# Altium integrated library Infineon_Microcontroller.IntLib: 721 symbols (part 65 of 66)
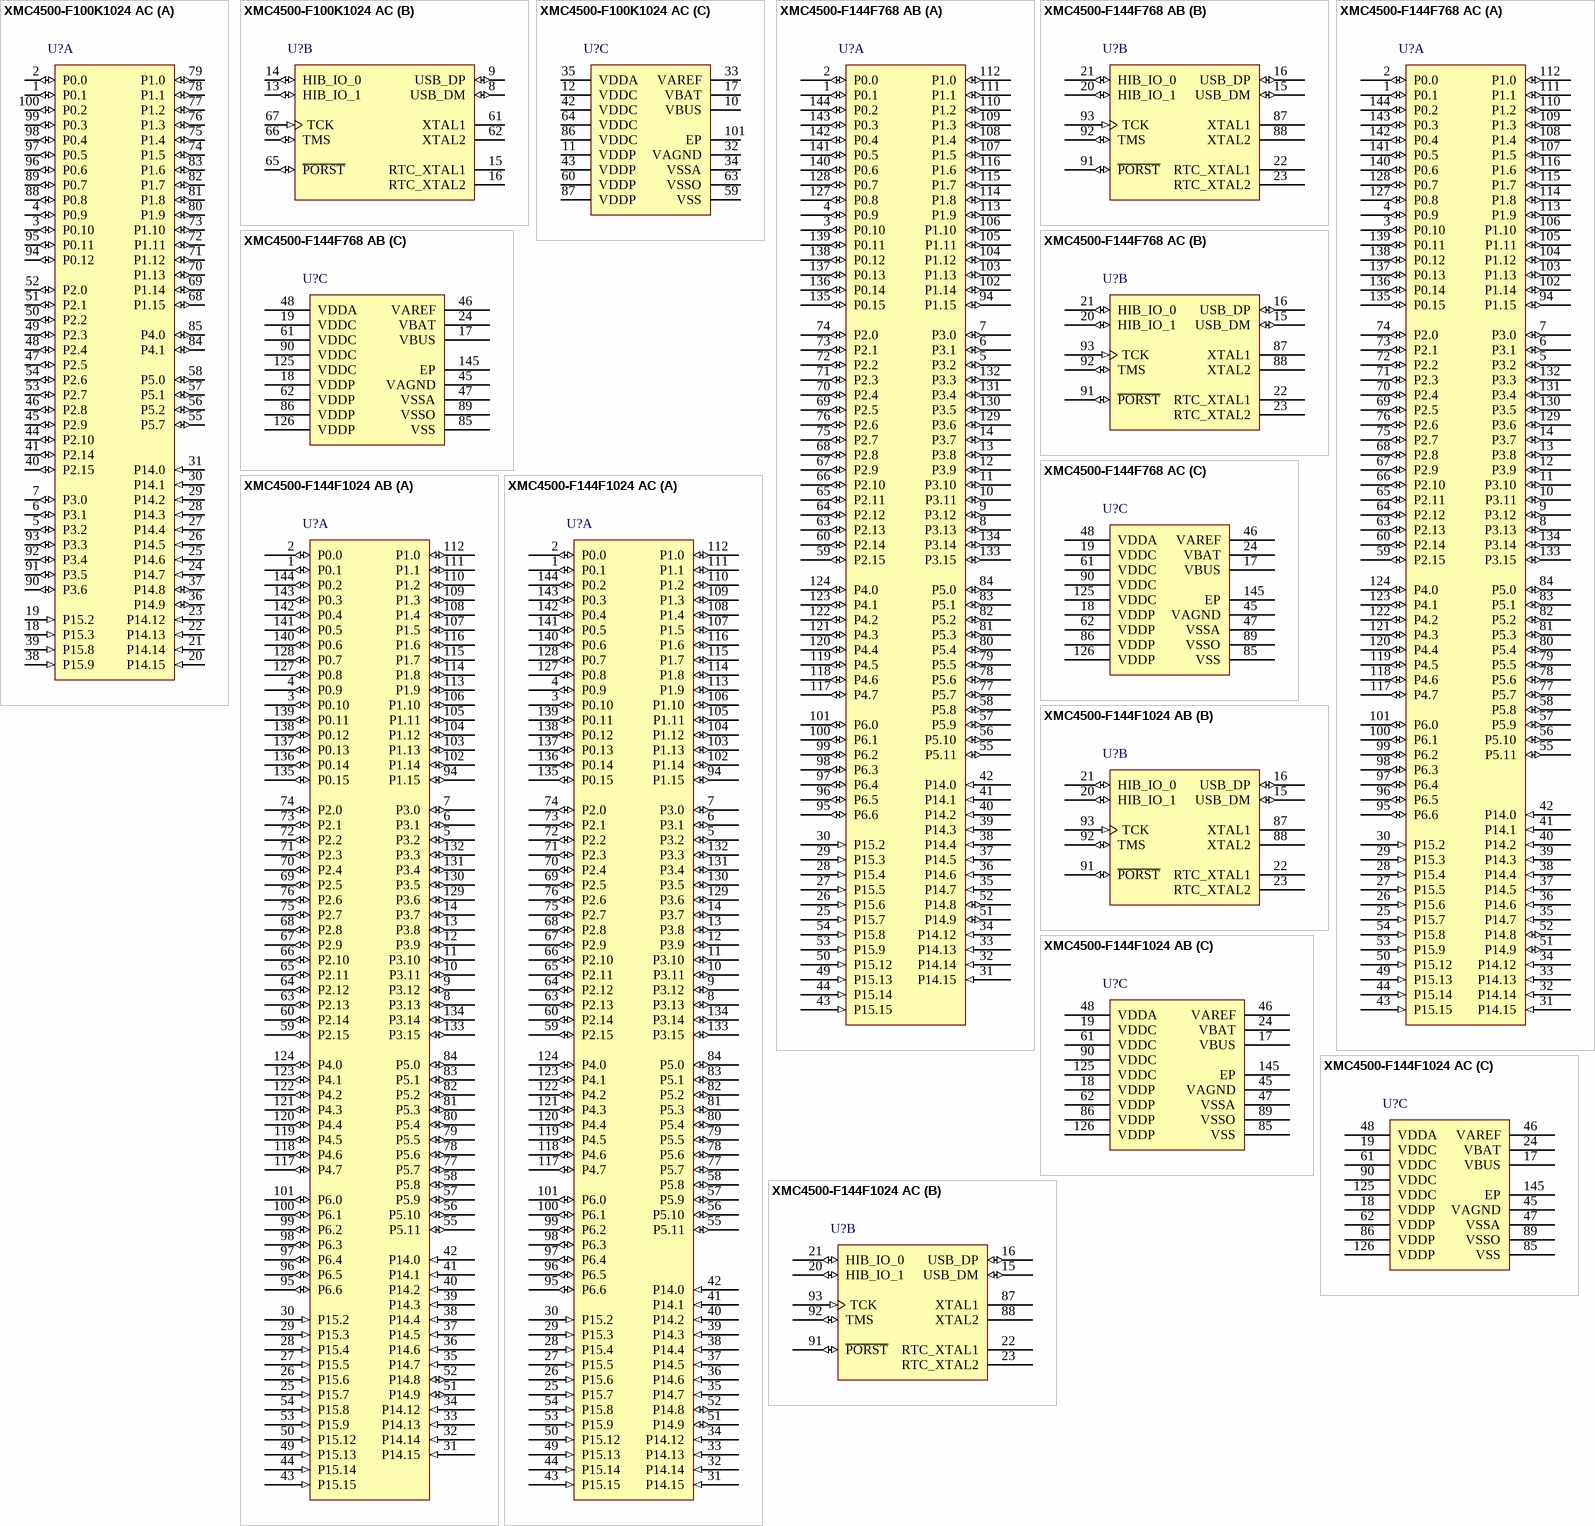
[diagram p182: symbols XMC4500-F100K1024 AC to XMC4500-F144F1024 AC]

## XMC4500-F144F768 AB
designator U?
120 MHz XMC4500 MCU with 768 KByte Program Memory, 160 KByte SRAM, 3.3 V, -40 to 85 degC, PG-LQFP-144, Green; Manufacturer: Infineon; PartNumber: XMC4500-F144F768 AB; A / D input lines (incl. FADC): 26; Digital I/O Lines: 91; Green: TRUE; Type of Memory: Flash; Type of Serial I/O Interfaces: 6xSPI, Dual SPI, Quad SPI, UART, LIN, IIC, IIS; DatasheetVersion: Rev. 1.0; PackageVersion: Rev. 05, 01/2013; PackageReference: PG-LQFP-144-18; PackageDescription: 144-Pin Plastic (Green) Low Profile Quad Flat Package, 20 x 20 mm Body, 0.5 mm Pitch; Group: XMC4500; Halogen-free: TRUE; Program Memory: 768 KByte; RoHS: TRUE; SRAM (incl. Cache): 160 KByte; Mounting Technology: Surface Mount; ComponentLink1Description: Manufacturer URL; ComponentLink1URL: http://www.infineon.com/; ComponentLink2Description: Datasheet; ComponentLink2URL: http://www.infineon.com/dgdl/xmc4500_ds_v1+0_2013_01.pdf?folderId=db3a30433580b3710135a47f3eb76c98&fileId=db3a304335b504400135bdca7ed86742&location=en.Products.Microcontrollers.32-bit_Industrial_Microcontrollers_based_on_ARM__Cortex_-M.32-bit_XMC4000_Industrial_Microcontrollers_ARM__Cortex_-M4.DATASHEET.xmc4500_ds_v1 0_2013_01.pdf; ComponentLink3Description: Package Specification; ComponentLink3URL: http://www.infineon.com/cms/packages/SMD_-_Surface_Mounted_Devices/P-PG-LQFP/P-PG-LQFP-144-04x_13x_14x_15x_16x_18.html?__locale=en
footprint INF-PG-LQFP-144-18-6500X6500TP_N (QFP, 144-Leads, Body 20x20mm, Pitch 0.5mm, Thermal Pad 6.5x6.5mm, IPC Medium Density)
footprint INF-PG-LQFP-144-18-6500X6500TP_L (QFP, 144-Leads, Body 20x20mm, Pitch 0.5mm, Thermal Pad 6.5x6.5mm, IPC High Density)
footprint INF-PG-LQFP-144-18-6500X6500TP_M (QFP, 144-Leads, Body 20x20mm, Pitch 0.5mm, Thermal Pad 6.5x6.5mm, IPC Low Density)
part A pins: 1 P0.1 (io), 2 P0.0 (io), 3 P0.10 (io), 4 P0.9 (io), 5 P3.2 (io), 6 P3.1 (io), 7 P3.0 (io), 8 P3.13 (io), 9 P3.12 (io), 10 P3.11 (io), 11 P3.10 (io), 12 P3.9 (io), 13 P3.8 (io), 14 P3.7 (io), 25 P15.7 (in), 26 P15.6 (in), 27 P15.5 (in), 28 P15.4 (in), 29 P15.3 (in), 30 P15.2 (in), 31 P14.15 (in), 32 P14.14 (in), 33 P14.13 (in), 34 P14.12 (in), 35 P14.7 (in), 36 P14.6 (in), 37 P14.5 (in), 38 P14.4 (in), 39 P14.3 (in), 40 P14.2 (in), 41 P14.1 (in), 42 P14.0 (in), 43 P15.15 (in), 44 P15.14 (in), 49 P15.13 (in), 50 P15.12 (in), 51 P14.9 (io), 52 P14.8 (io), 53 P15.9 (in), 54 P15.8 (in), 55 P5.11 (io), 56 P5.10 (io), 57 P5.9 (io), 58 P5.8 (io), 59 P2.15 (io), 60 P2.14 (io), 63 P2.13 (io), 64 P2.12 (io), 65 P2.11 (io), 66 P2.10 (io), 67 P2.9 (io), 68 P2.8 (io), 69 P2.5 (io), 70 P2.4 (io), 71 P2.3 (io), 72 P2.2 (io), 73 P2.1 (io), 74 P2.0 (io), 75 P2.7 (io), 76 P2.6 (io), 77 P5.7 (io), 78 P5.6 (io), 79 P5.5 (io), 80 P5.4 (io), 81 P5.3 (io), 82 P5.2 (io), 83 P5.1 (io), 84 P5.0 (io), 94 P1.15 (io), 95 P6.6 (io), 96 P6.5 (io), 97 P6.4 (io), 98 P6.3 (io), 99 P6.2 (io), 100 P6.1 (io), 101 P6.0 (io), 102 P1.14 (io), 103 P1.13 (io), 104 P1.12 (io), 105 P1.11 (io), 106 P1.10 (io), 107 P1.5 (io), 108 P1.4 (io), 109 P1.3 (io), 110 P1.2 (io), 111 P1.1 (io), 112 P1.0 (io), 113 P1.9 (io), 114 P1.8 (io), 115 P1.7 (io), 116 P1.6 (io), 117 P4.7 (io), 118 P4.6 (io), 119 P4.5 (io), 120 P4.4 (io), 121 P4.3 (io), 122 P4.2 (io), 123 P4.1 (io), 124 P4.0 (io), 127 P0.8 (io), 128 P0.7 (io), 129 P3.6 (io), 130 P3.5 (io), 131 P3.4 (io), 132 P3.3 (io), 133 P3.15 (io), 134 P3.14 (io), 135 P0.15 (io), 136 P0.14 (io), 137 P0.13 (io), 138 P0.12 (io), 139 P0.11 (io), 140 P0.6 (io), 141 P0.5 (io), 142 P0.4 (io), 143 P0.3 (io), 144 P0.2 (io)
part B pins: 15 USB_DM (io), 16 USB_DP (io), 20 HIB_IO_1 (io), 21 HIB_IO_0 (io), 22 RTC_XTAL1, 23 RTC_XTAL2, 87 XTAL1, 88 XTAL2, 91 ~{PORST} (io) "Weak pull-up permanently active, strong pull-down controlled by EVR.", 92 TMS (io), 93 TCK (in)
part C pins: 17 VBUS (power), 18 VDDP (power), 19 VDDC (power), 24 VBAT (power) "When VDDP is supplied VBAT has to be supplied as well.", 45 VAGND (power), 46 VAREF (power), 47 VSSA (power), 48 VDDA (power), 61 VDDC (power), 62 VDDP (power), 85 VSS (power), 86 VDDP (power), 89 VSSO (power), 90 VDDC (power), 125 VDDC (power), 126 VDDP (power), 145 EP (power) "Exposed Die Pad"

## XMC4500-F144F768 AC
designator U?
120 MHz XMC4500 MCU with 768 KByte Program Memory, 160 KByte SRAM, 3.3 V, -40 to 85 degC, PG-LQFP-144, Tray, Green; Manufacturer: Infineon; PartNumber: XMC4500-F144F768 AC; A / D input lines (incl. FADC): 26; Digital I/O Lines: 91; Green: TRUE; I/O Operation Voltages: 3.3 V; Instruction set architecture: ARM(R) Cortex(TM)-M4 (32-bit); Max Clock Frequency: 120 MHz; Type of Memory: Flash; Type of Serial I/O Interfaces: UART,SPI,I2C,I2S,LIN,CAN,Ethernet 10/100,USB; DatasheetVersion: Rev. 1.3; PackageReference: PG-LQFP-144-18; PackageDescription: 144-Pin Plastic (Green) Low Profile Quad Flat Package, 20 x 20 mm Body, 0.5 mm Pitch; Group: XMC4500; Halogen-free: TRUE; Packing: Tray; Program Memory: 768 KByte; SRAM (incl. Cache): 160 KByte; Mounting Technology: Surface Mount; ComponentLink1Description: Manufacturer URL; ComponentLink1URL: http://www.infineon.com/; ComponentLink2Description: Datasheet; ComponentLink2URL: http://www.infineon.com/dgdl/xmc4500_ds_v1.3_2014_03.pdf?folderId=db3a30433580b3710135a47f3eb76c98&fileId=db3a304335b504400135bdca7ed86742; ComponentLink3Description: Package Specification; ComponentLink3URL: http://www.infineon.com/cms/packages/SMD_-_Surface_Mounted_Devices/P-PG-LQFP/P-PG-LQFP-144-04x_13x_14x_15x_16x_18x_23.html?__locale=en
footprint INF-PG-LQFP-144-18-6500X6500TP_N (QFP, 144-Leads, Body 20x20mm, Pitch 0.5mm, Thermal Pad 6.5x6.5mm, IPC Medium Density)
footprint INF-PG-LQFP-144-18-6500X6500TP_L (QFP, 144-Leads, Body 20x20mm, Pitch 0.5mm, Thermal Pad 6.5x6.5mm, IPC High Density)
footprint INF-PG-LQFP-144-18-6500X6500TP_M (QFP, 144-Leads, Body 20x20mm, Pitch 0.5mm, Thermal Pad 6.5x6.5mm, IPC Low Density)
part A pins: 1 P0.1 (io), 2 P0.0 (io), 3 P0.10 (io), 4 P0.9 (io), 5 P3.2 (io), 6 P3.1 (io), 7 P3.0 (io), 8 P3.13 (io), 9 P3.12 (io), 10 P3.11 (io), 11 P3.10 (io), 12 P3.9 (io), 13 P3.8 (io), 14 P3.7 (io), 25 P15.7 (in), 26 P15.6 (in), 27 P15.5 (in), 28 P15.4 (in), 29 P15.3 (in), 30 P15.2 (in), 31 P14.15 (in), 32 P14.14 (in), 33 P14.13 (in), 34 P14.12 (in), 35 P14.7 (in), 36 P14.6 (in), 37 P14.5 (in), 38 P14.4 (in), 39 P14.3 (in), 40 P14.2 (in), 41 P14.1 (in), 42 P14.0 (in), 43 P15.15 (in), 44 P15.14 (in), 49 P15.13 (in), 50 P15.12 (in), 51 P14.9 (io), 52 P14.8 (io), 53 P15.9 (in), 54 P15.8 (in), 55 P5.11 (io), 56 P5.10 (io), 57 P5.9 (io), 58 P5.8 (io), 59 P2.15 (io), 60 P2.14 (io), 63 P2.13 (io), 64 P2.12 (io), 65 P2.11 (io), 66 P2.10 (io), 67 P2.9 (io), 68 P2.8 (io), 69 P2.5 (io), 70 P2.4 (io), 71 P2.3 (io), 72 P2.2 (io), 73 P2.1 (io), 74 P2.0 (io), 75 P2.7 (io), 76 P2.6 (io), 77 P5.7 (io), 78 P5.6 (io), 79 P5.5 (io), 80 P5.4 (io), 81 P5.3 (io), 82 P5.2 (io), 83 P5.1 (io), 84 P5.0 (io), 94 P1.15 (io), 95 P6.6 (io), 96 P6.5 (io), 97 P6.4 (io), 98 P6.3 (io), 99 P6.2 (io), 100 P6.1 (io), 101 P6.0 (io), 102 P1.14 (io), 103 P1.13 (io), 104 P1.12 (io), 105 P1.11 (io), 106 P1.10 (io), 107 P1.5 (io), 108 P1.4 (io), 109 P1.3 (io), 110 P1.2 (io), 111 P1.1 (io), 112 P1.0 (io), 113 P1.9 (io), 114 P1.8 (io), 115 P1.7 (io), 116 P1.6 (io), 117 P4.7 (io), 118 P4.6 (io), 119 P4.5 (io), 120 P4.4 (io), 121 P4.3 (io), 122 P4.2 (io), 123 P4.1 (io), 124 P4.0 (io), 127 P0.8 (io), 128 P0.7 (io), 129 P3.6 (io), 130 P3.5 (io), 131 P3.4 (io), 132 P3.3 (io), 133 P3.15 (io), 134 P3.14 (io), 135 P0.15 (io), 136 P0.14 (io), 137 P0.13 (io), 138 P0.12 (io), 139 P0.11 (io), 140 P0.6 (io), 141 P0.5 (io), 142 P0.4 (io), 143 P0.3 (io), 144 P0.2 (io)
part B pins: 15 USB_DM (io), 16 USB_DP (io), 20 HIB_IO_1 (io), 21 HIB_IO_0 (io), 22 RTC_XTAL1, 23 RTC_XTAL2, 87 XTAL1, 88 XTAL2, 91 ~{PORST} (io), 92 TMS (io), 93 TCK (in)
part C pins: 17 VBUS (power), 18 VDDP (power), 19 VDDC (power), 24 VBAT (power), 45 VAGND (power), 46 VAREF (power), 47 VSSA (power), 48 VDDA (power), 61 VDDC (power), 62 VDDP (power), 85 VSS (power), 86 VDDP (power), 89 VSSO (power), 90 VDDC (power), 125 VDDC (power), 126 VDDP (power), 145 EP (power)

## XMC4500-F144F1024 AB
designator U?
120 MHz XMC4500 MCU with 1,024 KByte Program Memory, 160 KByte SRAM, 3.3 V, -40 to 85 degC, PG-LQFP-144, Green; Manufacturer: Infineon; PartNumber: XMC4500-F144F1024 AB; A / D input lines (incl. FADC): 26; Digital I/O Lines: 91; Green: TRUE; Program Memory: 1024 KByte; Type of Memory: Flash; Type of Serial I/O Interfaces: 6xSPI, Dual SPI, Quad SPI, UART, LIN, IIC, IIS; DatasheetVersion: Rev. 1.0; PackageVersion: Rev. 05, 01/2013; PackageReference: PG-LQFP-144-18; PackageDescription: 144-Pin Plastic (Green) Low Profile Quad Flat Package, 20 x 20 mm Body, 0.5 mm Pitch; Supplier 1: Digi-Key; Supplier Part Number 1: XMC4500-F144F1024 ABIN-ND; Group: XMC4500; Halogen-free: TRUE; RoHS: TRUE; SRAM (incl. Cache): 160 KByte; Mounting Technology: Surface Mount; ComponentLink1Description: Manufacturer URL; ComponentLink1URL: http://www.infineon.com/; ComponentLink2Description: Datasheet; ComponentLink2URL: http://www.infineon.com/dgdl/xmc4500_ds_v1+0_2013_01.pdf?folderId=db3a30433580b3710135a47f3eb76c98&fileId=db3a304335b504400135bdca7ed86742&location=en.Products.Microcontrollers.32-bit_Industrial_Microcontrollers_based_on_ARM__Cortex_-M.32-bit_XMC4000_Industrial_Microcontrollers_ARM__Cortex_-M4.DATASHEET.xmc4500_ds_v1 0_2013_01.pdf; ComponentLink3Description: Package Specification; ComponentLink3URL: http://www.infineon.com/cms/packages/SMD_-_Surface_Mounted_Devices/P-PG-LQFP/P-PG-LQFP-144-04x_13x_14x_15x_16x_18.html?__locale=en
footprint INF-PG-LQFP-144-18-6500X6500TP_N (QFP, 144-Leads, Body 20x20mm, Pitch 0.5mm, Thermal Pad 6.5x6.5mm, IPC Medium Density)
footprint INF-PG-LQFP-144-18-6500X6500TP_L (QFP, 144-Leads, Body 20x20mm, Pitch 0.5mm, Thermal Pad 6.5x6.5mm, IPC High Density)
footprint INF-PG-LQFP-144-18-6500X6500TP_M (QFP, 144-Leads, Body 20x20mm, Pitch 0.5mm, Thermal Pad 6.5x6.5mm, IPC Low Density)
part A pins: 1 P0.1 (io), 2 P0.0 (io), 3 P0.10 (io), 4 P0.9 (io), 5 P3.2 (io), 6 P3.1 (io), 7 P3.0 (io), 8 P3.13 (io), 9 P3.12 (io), 10 P3.11 (io), 11 P3.10 (io), 12 P3.9 (io), 13 P3.8 (io), 14 P3.7 (io), 25 P15.7 (in), 26 P15.6 (in), 27 P15.5 (in), 28 P15.4 (in), 29 P15.3 (in), 30 P15.2 (in), 31 P14.15 (in), 32 P14.14 (in), 33 P14.13 (in), 34 P14.12 (in), 35 P14.7 (in), 36 P14.6 (in), 37 P14.5 (in), 38 P14.4 (in), 39 P14.3 (in), 40 P14.2 (in), 41 P14.1 (in), 42 P14.0 (in), 43 P15.15 (in), 44 P15.14 (in), 49 P15.13 (in), 50 P15.12 (in), 51 P14.9 (io), 52 P14.8 (io), 53 P15.9 (in), 54 P15.8 (in), 55 P5.11 (io), 56 P5.10 (io), 57 P5.9 (io), 58 P5.8 (io), 59 P2.15 (io), 60 P2.14 (io), 63 P2.13 (io), 64 P2.12 (io), 65 P2.11 (io), 66 P2.10 (io), 67 P2.9 (io), 68 P2.8 (io), 69 P2.5 (io), 70 P2.4 (io), 71 P2.3 (io), 72 P2.2 (io), 73 P2.1 (io), 74 P2.0 (io), 75 P2.7 (io), 76 P2.6 (io), 77 P5.7 (io), 78 P5.6 (io), 79 P5.5 (io), 80 P5.4 (io), 81 P5.3 (io), 82 P5.2 (io), 83 P5.1 (io), 84 P5.0 (io), 94 P1.15 (io), 95 P6.6 (io), 96 P6.5 (io), 97 P6.4 (io), 98 P6.3 (io), 99 P6.2 (io), 100 P6.1 (io), 101 P6.0 (io), 102 P1.14 (io), 103 P1.13 (io), 104 P1.12 (io), 105 P1.11 (io), 106 P1.10 (io), 107 P1.5 (io), 108 P1.4 (io), 109 P1.3 (io), 110 P1.2 (io), 111 P1.1 (io), 112 P1.0 (io), 113 P1.9 (io), 114 P1.8 (io), 115 P1.7 (io), 116 P1.6 (io), 117 P4.7 (io), 118 P4.6 (io), 119 P4.5 (io), 120 P4.4 (io), 121 P4.3 (io), 122 P4.2 (io), 123 P4.1 (io), 124 P4.0 (io), 127 P0.8 (io), 128 P0.7 (io), 129 P3.6 (io), 130 P3.5 (io), 131 P3.4 (io), 132 P3.3 (io), 133 P3.15 (io), 134 P3.14 (io), 135 P0.15 (io), 136 P0.14 (io), 137 P0.13 (io), 138 P0.12 (io), 139 P0.11 (io), 140 P0.6 (io), 141 P0.5 (io), 142 P0.4 (io), 143 P0.3 (io), 144 P0.2 (io)
part B pins: 15 USB_DM (io), 16 USB_DP (io), 20 HIB_IO_1 (io), 21 HIB_IO_0 (io), 22 RTC_XTAL1, 23 RTC_XTAL2, 87 XTAL1, 88 XTAL2, 91 ~{PORST} (io) "Weak pull-up permanently active, strong pull-down controlled by EVR.", 92 TMS (io), 93 TCK (in)
part C pins: 17 VBUS (power), 18 VDDP (power), 19 VDDC (power), 24 VBAT (power) "When VDDP is supplied VBAT has to be supplied as well.", 45 VAGND (power), 46 VAREF (power), 47 VSSA (power), 48 VDDA (power), 61 VDDC (power), 62 VDDP (power), 85 VSS (power), 86 VDDP (power), 89 VSSO (power), 90 VDDC (power), 125 VDDC (power), 126 VDDP (power), 145 EP (power) "Exposed Die Pad"

## XMC4500-F144F1024 AC
designator U?
120 MHz XMC4500 MCU with 1024 KByte Program Memory, 160 KByte SRAM, 3.3 V, -40 to 85 degC, PG-LQFP-144, Tray, Green; Manufacturer: Infineon; PartNumber: XMC4500-F144F1024 AC; A / D input lines (incl. FADC): 26; Digital I/O Lines: 91; Green: TRUE; I/O Operation Voltages: 3.3 V; Instruction set architecture: ARM(R) Cortex(TM)-M4 (32-bit); Max Clock Frequency: 120 MHz; Type of Memory: Flash; Type of Serial I/O Interfaces: UART,SPI,I2C,I2S,LIN,CAN,Ethernet 10/100,USB; DatasheetVersion: Rev. 1.3; PackageReference: PG-LQFP-144-18; PackageDescription: 144-Pin Plastic (Green) Low Profile Quad Flat Package, 20 x 20 mm Body, 0.5 mm Pitch; Group: XMC4500; Halogen-free: TRUE; Packing: Tray; Program Memory: 1024 KByte; SRAM (incl. Cache): 160 KByte; Mounting Technology: Surface Mount; ComponentLink1Description: Manufacturer URL; ComponentLink1URL: http://www.infineon.com/; ComponentLink2Description: Datasheet; ComponentLink2URL: http://www.infineon.com/dgdl/xmc4500_ds_v1.3_2014_03.pdf?folderId=db3a30433580b3710135a47f3eb76c98&fileId=db3a304335b504400135bdca7ed86742; ComponentLink3Description: Package Specification; ComponentLink3URL: http://www.infineon.com/cms/packages/SMD_-_Surface_Mounted_Devices/P-PG-LQFP/P-PG-LQFP-144-04x_13x_14x_15x_16x_18x_23.html?__locale=en
footprint INF-PG-LQFP-144-18-6500X6500TP_N (QFP, 144-Leads, Body 20x20mm, Pitch 0.5mm, Thermal Pad 6.5x6.5mm, IPC Medium Density)
footprint INF-PG-LQFP-144-18-6500X6500TP_L (QFP, 144-Leads, Body 20x20mm, Pitch 0.5mm, Thermal Pad 6.5x6.5mm, IPC High Density)
footprint INF-PG-LQFP-144-18-6500X6500TP_M (QFP, 144-Leads, Body 20x20mm, Pitch 0.5mm, Thermal Pad 6.5x6.5mm, IPC Low Density)
part A pins: 1 P0.1 (io), 2 P0.0 (io), 3 P0.10 (io), 4 P0.9 (io), 5 P3.2 (io), 6 P3.1 (io), 7 P3.0 (io), 8 P3.13 (io), 9 P3.12 (io), 10 P3.11 (io), 11 P3.10 (io), 12 P3.9 (io), 13 P3.8 (io), 14 P3.7 (io), 25 P15.7 (in), 26 P15.6 (in), 27 P15.5 (in), 28 P15.4 (in), 29 P15.3 (in), 30 P15.2 (in), 31 P14.15 (in), 32 P14.14 (in), 33 P14.13 (in), 34 P14.12 (in), 35 P14.7 (in), 36 P14.6 (in), 37 P14.5 (in), 38 P14.4 (in), 39 P14.3 (in), 40 P14.2 (in), 41 P14.1 (in), 42 P14.0 (in), 43 P15.15 (in), 44 P15.14 (in), 49 P15.13 (in), 50 P15.12 (in), 51 P14.9 (io), 52 P14.8 (io), 53 P15.9 (in), 54 P15.8 (in), 55 P5.11 (io), 56 P5.10 (io), 57 P5.9 (io), 58 P5.8 (io), 59 P2.15 (io), 60 P2.14 (io), 63 P2.13 (io), 64 P2.12 (io), 65 P2.11 (io), 66 P2.10 (io), 67 P2.9 (io), 68 P2.8 (io), 69 P2.5 (io), 70 P2.4 (io), 71 P2.3 (io), 72 P2.2 (io), 73 P2.1 (io), 74 P2.0 (io), 75 P2.7 (io), 76 P2.6 (io), 77 P5.7 (io), 78 P5.6 (io), 79 P5.5 (io), 80 P5.4 (io), 81 P5.3 (io), 82 P5.2 (io), 83 P5.1 (io), 84 P5.0 (io), 94 P1.15 (io), 95 P6.6 (io), 96 P6.5 (io), 97 P6.4 (io), 98 P6.3 (io), 99 P6.2 (io), 100 P6.1 (io), 101 P6.0 (io), 102 P1.14 (io), 103 P1.13 (io), 104 P1.12 (io), 105 P1.11 (io), 106 P1.10 (io), 107 P1.5 (io), 108 P1.4 (io), 109 P1.3 (io), 110 P1.2 (io), 111 P1.1 (io), 112 P1.0 (io), 113 P1.9 (io), 114 P1.8 (io), 115 P1.7 (io), 116 P1.6 (io), 117 P4.7 (io), 118 P4.6 (io), 119 P4.5 (io), 120 P4.4 (io), 121 P4.3 (io), 122 P4.2 (io), 123 P4.1 (io), 124 P4.0 (io), 127 P0.8 (io), 128 P0.7 (io), 129 P3.6 (io), 130 P3.5 (io), 131 P3.4 (io), 132 P3.3 (io), 133 P3.15 (io), 134 P3.14 (io), 135 P0.15 (io), 136 P0.14 (io), 137 P0.13 (io), 138 P0.12 (io), 139 P0.11 (io), 140 P0.6 (io), 141 P0.5 (io), 142 P0.4 (io), 143 P0.3 (io), 144 P0.2 (io)
part B pins: 15 USB_DM (io), 16 USB_DP (io), 20 HIB_IO_1 (io), 21 HIB_IO_0 (io), 22 RTC_XTAL1, 23 RTC_XTAL2, 87 XTAL1, 88 XTAL2, 91 ~{PORST} (io), 92 TMS (io), 93 TCK (in)
part C pins: 17 VBUS (power), 18 VDDP (power), 19 VDDC (power), 24 VBAT (power), 45 VAGND (power), 46 VAREF (power), 47 VSSA (power), 48 VDDA (power), 61 VDDC (power), 62 VDDP (power), 85 VSS (power), 86 VDDP (power), 89 VSSO (power), 90 VDDC (power), 125 VDDC (power), 126 VDDP (power), 145 EP (power)

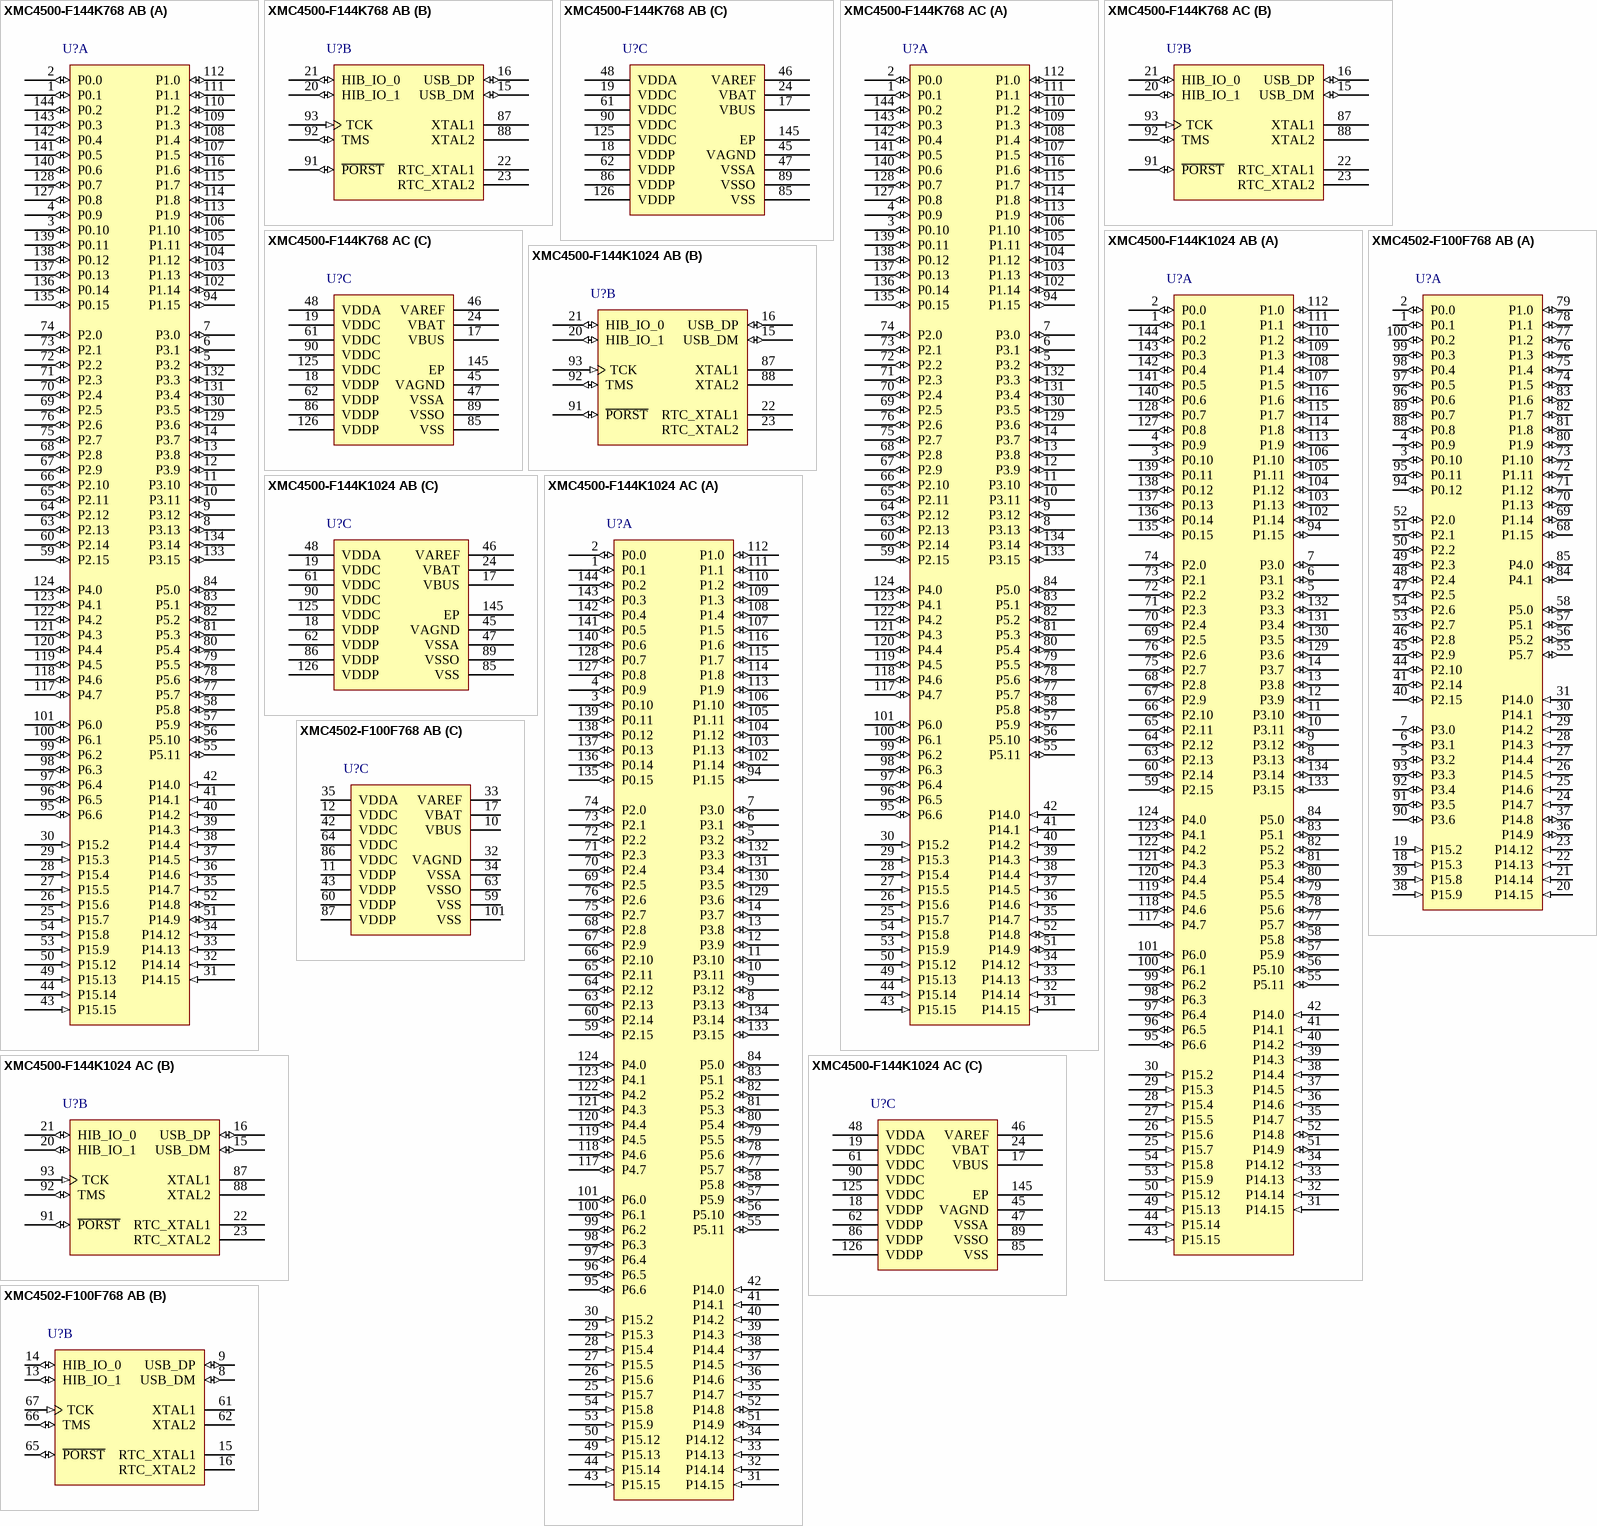
[diagram p116: symbols XMC4500-F144K768 AB to XMC4502-F100F768 AB]

## XMC4500-F144K768 AB
designator U?
120 MHz XMC4500 MCU with 768 KByte Program Memory, 160 KByte SRAM, 3.3 V, -40 to 125 degC, PG-LQFP-144, Green; Manufacturer: Infineon; PartNumber: XMC4500-F144K768 AB; A / D input lines (incl. FADC): 26; Digital I/O Lines: 91; Green: TRUE; Type of Memory: Flash; Type of Serial I/O Interfaces: 6xSPI, Dual SPI, Quad SPI, UART, LIN, IIC, IIS; DatasheetVersion: Rev. 1.0; PackageVersion: Rev. 05, 01/2013; PackageReference: PG-LQFP-144-18; PackageDescription: 144-Pin Plastic (Green) Low Profile Quad Flat Package, 20 x 20 mm Body, 0.5 mm Pitch; Group: XMC4500; Halogen-free: TRUE; Program Memory: 768 KByte; RoHS: TRUE; SRAM (incl. Cache): 160 KByte; Mounting Technology: Surface Mount; ComponentLink1Description: Manufacturer URL; ComponentLink1URL: http://www.infineon.com/; ComponentLink2Description: Datasheet; ComponentLink2URL: http://www.infineon.com/dgdl/xmc4500_ds_v1+0_2013_01.pdf?folderId=db3a30433580b3710135a47f3eb76c98&fileId=db3a304335b504400135bdca7ed86742&location=en.Products.Microcontrollers.32-bit_Industrial_Microcontrollers_based_on_ARM__Cortex_-M.32-bit_XMC4000_Industrial_Microcontrollers_ARM__Cortex_-M4.DATASHEET.xmc4500_ds_v1 0_2013_01.pdf; ComponentLink3Description: Package Specification; ComponentLink3URL: http://www.infineon.com/cms/packages/SMD_-_Surface_Mounted_Devices/P-PG-LQFP/P-PG-LQFP-144-04x_13x_14x_15x_16x_18.html?__locale=en
footprint INF-PG-LQFP-144-18-6500X6500TP_N (QFP, 144-Leads, Body 20x20mm, Pitch 0.5mm, Thermal Pad 6.5x6.5mm, IPC Medium Density)
footprint INF-PG-LQFP-144-18-6500X6500TP_L (QFP, 144-Leads, Body 20x20mm, Pitch 0.5mm, Thermal Pad 6.5x6.5mm, IPC High Density)
footprint INF-PG-LQFP-144-18-6500X6500TP_M (QFP, 144-Leads, Body 20x20mm, Pitch 0.5mm, Thermal Pad 6.5x6.5mm, IPC Low Density)
part A pins: 1 P0.1 (io), 2 P0.0 (io), 3 P0.10 (io), 4 P0.9 (io), 5 P3.2 (io), 6 P3.1 (io), 7 P3.0 (io), 8 P3.13 (io), 9 P3.12 (io), 10 P3.11 (io), 11 P3.10 (io), 12 P3.9 (io), 13 P3.8 (io), 14 P3.7 (io), 25 P15.7 (in), 26 P15.6 (in), 27 P15.5 (in), 28 P15.4 (in), 29 P15.3 (in), 30 P15.2 (in), 31 P14.15 (in), 32 P14.14 (in), 33 P14.13 (in), 34 P14.12 (in), 35 P14.7 (in), 36 P14.6 (in), 37 P14.5 (in), 38 P14.4 (in), 39 P14.3 (in), 40 P14.2 (in), 41 P14.1 (in), 42 P14.0 (in), 43 P15.15 (in), 44 P15.14 (in), 49 P15.13 (in), 50 P15.12 (in), 51 P14.9 (io), 52 P14.8 (io), 53 P15.9 (in), 54 P15.8 (in), 55 P5.11 (io), 56 P5.10 (io), 57 P5.9 (io), 58 P5.8 (io), 59 P2.15 (io), 60 P2.14 (io), 63 P2.13 (io), 64 P2.12 (io), 65 P2.11 (io), 66 P2.10 (io), 67 P2.9 (io), 68 P2.8 (io), 69 P2.5 (io), 70 P2.4 (io), 71 P2.3 (io), 72 P2.2 (io), 73 P2.1 (io), 74 P2.0 (io), 75 P2.7 (io), 76 P2.6 (io), 77 P5.7 (io), 78 P5.6 (io), 79 P5.5 (io), 80 P5.4 (io), 81 P5.3 (io), 82 P5.2 (io), 83 P5.1 (io), 84 P5.0 (io), 94 P1.15 (io), 95 P6.6 (io), 96 P6.5 (io), 97 P6.4 (io), 98 P6.3 (io), 99 P6.2 (io), 100 P6.1 (io), 101 P6.0 (io), 102 P1.14 (io), 103 P1.13 (io), 104 P1.12 (io), 105 P1.11 (io), 106 P1.10 (io), 107 P1.5 (io), 108 P1.4 (io), 109 P1.3 (io), 110 P1.2 (io), 111 P1.1 (io), 112 P1.0 (io), 113 P1.9 (io), 114 P1.8 (io), 115 P1.7 (io), 116 P1.6 (io), 117 P4.7 (io), 118 P4.6 (io), 119 P4.5 (io), 120 P4.4 (io), 121 P4.3 (io), 122 P4.2 (io), 123 P4.1 (io), 124 P4.0 (io), 127 P0.8 (io), 128 P0.7 (io), 129 P3.6 (io), 130 P3.5 (io), 131 P3.4 (io), 132 P3.3 (io), 133 P3.15 (io), 134 P3.14 (io), 135 P0.15 (io), 136 P0.14 (io), 137 P0.13 (io), 138 P0.12 (io), 139 P0.11 (io), 140 P0.6 (io), 141 P0.5 (io), 142 P0.4 (io), 143 P0.3 (io), 144 P0.2 (io)
part B pins: 15 USB_DM (io), 16 USB_DP (io), 20 HIB_IO_1 (io), 21 HIB_IO_0 (io), 22 RTC_XTAL1, 23 RTC_XTAL2, 87 XTAL1, 88 XTAL2, 91 ~{PORST} (io) "Weak pull-up permanently active, strong pull-down controlled by EVR.", 92 TMS (io), 93 TCK (in)
part C pins: 17 VBUS (power), 18 VDDP (power), 19 VDDC (power), 24 VBAT (power) "When VDDP is supplied VBAT has to be supplied as well.", 45 VAGND (power), 46 VAREF (power), 47 VSSA (power), 48 VDDA (power), 61 VDDC (power), 62 VDDP (power), 85 VSS (power), 86 VDDP (power), 89 VSSO (power), 90 VDDC (power), 125 VDDC (power), 126 VDDP (power), 145 EP (power) "Exposed Die Pad"

## XMC4500-F144K768 AC
designator U?
120 MHz XMC4500 MCU with 768 KByte Program Memory, 160 KByte SRAM, 3.3 V, -40 to 125 degC, PG-LQFP-144, Tray, Green; Manufacturer: Infineon; PartNumber: XMC4500-F144K768 AC; A / D input lines (incl. FADC): 26; Digital I/O Lines: 91; Green: TRUE; I/O Operation Voltages: 3.3 V; Instruction set architecture: ARM(R) Cortex(TM)-M4 (32-bit); Max Clock Frequency: 120 MHz; Type of Memory: Flash; Type of Serial I/O Interfaces: UART,SPI,I2C,I2S,LIN,CAN,Ethernet 10/100,USB; DatasheetVersion: Rev. 1.3; PackageReference: PG-LQFP-144-18; PackageDescription: 144-Pin Plastic (Green) Low Profile Quad Flat Package, 20 x 20 mm Body, 0.5 mm Pitch; Group: XMC4500; Halogen-free: TRUE; Packing: Tray; Program Memory: 768 KByte; SRAM (incl. Cache): 160 KByte; Mounting Technology: Surface Mount; ComponentLink1Description: Manufacturer URL; ComponentLink1URL: http://www.infineon.com/; ComponentLink2Description: Datasheet; ComponentLink2URL: http://www.infineon.com/dgdl/xmc4500_ds_v1.3_2014_03.pdf?folderId=db3a30433580b3710135a47f3eb76c98&fileId=db3a304335b504400135bdca7ed86742; ComponentLink3Description: Package Specification; ComponentLink3URL: http://www.infineon.com/cms/packages/SMD_-_Surface_Mounted_Devices/P-PG-LQFP/P-PG-LQFP-144-04x_13x_14x_15x_16x_18x_23.html?__locale=en
footprint INF-PG-LQFP-144-18-6500X6500TP_N (QFP, 144-Leads, Body 20x20mm, Pitch 0.5mm, Thermal Pad 6.5x6.5mm, IPC Medium Density)
footprint INF-PG-LQFP-144-18-6500X6500TP_L (QFP, 144-Leads, Body 20x20mm, Pitch 0.5mm, Thermal Pad 6.5x6.5mm, IPC High Density)
footprint INF-PG-LQFP-144-18-6500X6500TP_M (QFP, 144-Leads, Body 20x20mm, Pitch 0.5mm, Thermal Pad 6.5x6.5mm, IPC Low Density)
part A pins: 1 P0.1 (io), 2 P0.0 (io), 3 P0.10 (io), 4 P0.9 (io), 5 P3.2 (io), 6 P3.1 (io), 7 P3.0 (io), 8 P3.13 (io), 9 P3.12 (io), 10 P3.11 (io), 11 P3.10 (io), 12 P3.9 (io), 13 P3.8 (io), 14 P3.7 (io), 25 P15.7 (in), 26 P15.6 (in), 27 P15.5 (in), 28 P15.4 (in), 29 P15.3 (in), 30 P15.2 (in), 31 P14.15 (in), 32 P14.14 (in), 33 P14.13 (in), 34 P14.12 (in), 35 P14.7 (in), 36 P14.6 (in), 37 P14.5 (in), 38 P14.4 (in), 39 P14.3 (in), 40 P14.2 (in), 41 P14.1 (in), 42 P14.0 (in), 43 P15.15 (in), 44 P15.14 (in), 49 P15.13 (in), 50 P15.12 (in), 51 P14.9 (io), 52 P14.8 (io), 53 P15.9 (in), 54 P15.8 (in), 55 P5.11 (io), 56 P5.10 (io), 57 P5.9 (io), 58 P5.8 (io), 59 P2.15 (io), 60 P2.14 (io), 63 P2.13 (io), 64 P2.12 (io), 65 P2.11 (io), 66 P2.10 (io), 67 P2.9 (io), 68 P2.8 (io), 69 P2.5 (io), 70 P2.4 (io), 71 P2.3 (io), 72 P2.2 (io), 73 P2.1 (io), 74 P2.0 (io), 75 P2.7 (io), 76 P2.6 (io), 77 P5.7 (io), 78 P5.6 (io), 79 P5.5 (io), 80 P5.4 (io), 81 P5.3 (io), 82 P5.2 (io), 83 P5.1 (io), 84 P5.0 (io), 94 P1.15 (io), 95 P6.6 (io), 96 P6.5 (io), 97 P6.4 (io), 98 P6.3 (io), 99 P6.2 (io), 100 P6.1 (io), 101 P6.0 (io), 102 P1.14 (io), 103 P1.13 (io), 104 P1.12 (io), 105 P1.11 (io), 106 P1.10 (io), 107 P1.5 (io), 108 P1.4 (io), 109 P1.3 (io), 110 P1.2 (io), 111 P1.1 (io), 112 P1.0 (io), 113 P1.9 (io), 114 P1.8 (io), 115 P1.7 (io), 116 P1.6 (io), 117 P4.7 (io), 118 P4.6 (io), 119 P4.5 (io), 120 P4.4 (io), 121 P4.3 (io), 122 P4.2 (io), 123 P4.1 (io), 124 P4.0 (io), 127 P0.8 (io), 128 P0.7 (io), 129 P3.6 (io), 130 P3.5 (io), 131 P3.4 (io), 132 P3.3 (io), 133 P3.15 (io), 134 P3.14 (io), 135 P0.15 (io), 136 P0.14 (io), 137 P0.13 (io), 138 P0.12 (io), 139 P0.11 (io), 140 P0.6 (io), 141 P0.5 (io), 142 P0.4 (io), 143 P0.3 (io), 144 P0.2 (io)
part B pins: 15 USB_DM (io), 16 USB_DP (io), 20 HIB_IO_1 (io), 21 HIB_IO_0 (io), 22 RTC_XTAL1, 23 RTC_XTAL2, 87 XTAL1, 88 XTAL2, 91 ~{PORST} (io), 92 TMS (io), 93 TCK (in)
part C pins: 17 VBUS (power), 18 VDDP (power), 19 VDDC (power), 24 VBAT (power), 45 VAGND (power), 46 VAREF (power), 47 VSSA (power), 48 VDDA (power), 61 VDDC (power), 62 VDDP (power), 85 VSS (power), 86 VDDP (power), 89 VSSO (power), 90 VDDC (power), 125 VDDC (power), 126 VDDP (power), 145 EP (power)

## XMC4500-F144K1024 AB
designator U?
120 MHz XMC4500 MCU with 1,024 KByte Program Memory, 160 KByte SRAM, 3.3 V, -40 to 125 degC, PG-LQFP-144, Green; Manufacturer: Infineon; PartNumber: XMC4500-F144K1024 AB; A / D input lines (incl. FADC): 26; Digital I/O Lines: 91; Green: TRUE; Program Memory: 1024 KByte; Type of Memory: Flash; Type of Serial I/O Interfaces: 6xSPI, Dual SPI, Quad SPI, UART, LIN, IIC, IIS; DatasheetVersion: Rev. 1.0; PackageVersion: Rev. 05, 01/2013; PackageReference: PG-LQFP-144-18; PackageDescription: 144-Pin Plastic (Green) Low Profile Quad Flat Package, 20 x 20 mm Body, 0.5 mm Pitch; Supplier 1: Digi-Key; Supplier Part Number 1: XMC4500-F144K1024 ABIN-ND; Group: XMC4500; Halogen-free: TRUE; RoHS: TRUE; SRAM (incl. Cache): 160 KByte; Mounting Technology: Surface Mount; ComponentLink1Description: Manufacturer URL; ComponentLink1URL: http://www.infineon.com/; ComponentLink2Description: Datasheet; ComponentLink2URL: http://www.infineon.com/dgdl/xmc4500_ds_v1+0_2013_01.pdf?folderId=db3a30433580b3710135a47f3eb76c98&fileId=db3a304335b504400135bdca7ed86742&location=en.Products.Microcontrollers.32-bit_Industrial_Microcontrollers_based_on_ARM__Cortex_-M.32-bit_XMC4000_Industrial_Microcontrollers_ARM__Cortex_-M4.DATASHEET.xmc4500_ds_v1 0_2013_01.pdf; ComponentLink3Description: Package Specification; ComponentLink3URL: http://www.infineon.com/cms/packages/SMD_-_Surface_Mounted_Devices/P-PG-LQFP/P-PG-LQFP-144-04x_13x_14x_15x_16x_18.html?__locale=en
footprint INF-PG-LQFP-144-18-6500X6500TP_N (QFP, 144-Leads, Body 20x20mm, Pitch 0.5mm, Thermal Pad 6.5x6.5mm, IPC Medium Density)
footprint INF-PG-LQFP-144-18-6500X6500TP_L (QFP, 144-Leads, Body 20x20mm, Pitch 0.5mm, Thermal Pad 6.5x6.5mm, IPC High Density)
footprint INF-PG-LQFP-144-18-6500X6500TP_M (QFP, 144-Leads, Body 20x20mm, Pitch 0.5mm, Thermal Pad 6.5x6.5mm, IPC Low Density)
part A pins: 1 P0.1 (io), 2 P0.0 (io), 3 P0.10 (io), 4 P0.9 (io), 5 P3.2 (io), 6 P3.1 (io), 7 P3.0 (io), 8 P3.13 (io), 9 P3.12 (io), 10 P3.11 (io), 11 P3.10 (io), 12 P3.9 (io), 13 P3.8 (io), 14 P3.7 (io), 25 P15.7 (in), 26 P15.6 (in), 27 P15.5 (in), 28 P15.4 (in), 29 P15.3 (in), 30 P15.2 (in), 31 P14.15 (in), 32 P14.14 (in), 33 P14.13 (in), 34 P14.12 (in), 35 P14.7 (in), 36 P14.6 (in), 37 P14.5 (in), 38 P14.4 (in), 39 P14.3 (in), 40 P14.2 (in), 41 P14.1 (in), 42 P14.0 (in), 43 P15.15 (in), 44 P15.14 (in), 49 P15.13 (in), 50 P15.12 (in), 51 P14.9 (io), 52 P14.8 (io), 53 P15.9 (in), 54 P15.8 (in), 55 P5.11 (io), 56 P5.10 (io), 57 P5.9 (io), 58 P5.8 (io), 59 P2.15 (io), 60 P2.14 (io), 63 P2.13 (io), 64 P2.12 (io), 65 P2.11 (io), 66 P2.10 (io), 67 P2.9 (io), 68 P2.8 (io), 69 P2.5 (io), 70 P2.4 (io), 71 P2.3 (io), 72 P2.2 (io), 73 P2.1 (io), 74 P2.0 (io), 75 P2.7 (io), 76 P2.6 (io), 77 P5.7 (io), 78 P5.6 (io), 79 P5.5 (io), 80 P5.4 (io), 81 P5.3 (io), 82 P5.2 (io), 83 P5.1 (io), 84 P5.0 (io), 94 P1.15 (io), 95 P6.6 (io), 96 P6.5 (io), 97 P6.4 (io), 98 P6.3 (io), 99 P6.2 (io), 100 P6.1 (io), 101 P6.0 (io), 102 P1.14 (io), 103 P1.13 (io), 104 P1.12 (io), 105 P1.11 (io), 106 P1.10 (io), 107 P1.5 (io), 108 P1.4 (io), 109 P1.3 (io), 110 P1.2 (io), 111 P1.1 (io), 112 P1.0 (io), 113 P1.9 (io), 114 P1.8 (io), 115 P1.7 (io), 116 P1.6 (io), 117 P4.7 (io), 118 P4.6 (io), 119 P4.5 (io), 120 P4.4 (io), 121 P4.3 (io), 122 P4.2 (io), 123 P4.1 (io), 124 P4.0 (io), 127 P0.8 (io), 128 P0.7 (io), 129 P3.6 (io), 130 P3.5 (io), 131 P3.4 (io), 132 P3.3 (io), 133 P3.15 (io), 134 P3.14 (io), 135 P0.15 (io), 136 P0.14 (io), 137 P0.13 (io), 138 P0.12 (io), 139 P0.11 (io), 140 P0.6 (io), 141 P0.5 (io), 142 P0.4 (io), 143 P0.3 (io), 144 P0.2 (io)
part B pins: 15 USB_DM (io), 16 USB_DP (io), 20 HIB_IO_1 (io), 21 HIB_IO_0 (io), 22 RTC_XTAL1, 23 RTC_XTAL2, 87 XTAL1, 88 XTAL2, 91 ~{PORST} (io) "Weak pull-up permanently active, strong pull-down controlled by EVR.", 92 TMS (io), 93 TCK (in)
part C pins: 17 VBUS (power), 18 VDDP (power), 19 VDDC (power), 24 VBAT (power) "When VDDP is supplied VBAT has to be supplied as well.", 45 VAGND (power), 46 VAREF (power), 47 VSSA (power), 48 VDDA (power), 61 VDDC (power), 62 VDDP (power), 85 VSS (power), 86 VDDP (power), 89 VSSO (power), 90 VDDC (power), 125 VDDC (power), 126 VDDP (power), 145 EP (power) "Exposed Die Pad"

## XMC4500-F144K1024 AC
designator U?
120 MHz XMC4500 MCU with 1024 KByte Program Memory, 160 KByte SRAM, 3.3 V, -40 to 125 degC, PG-LQFP-144, Tray, Green; Manufacturer: Infineon; PartNumber: XMC4500-F144K1024 AC; A / D input lines (incl. FADC): 26; Digital I/O Lines: 91; Green: TRUE; I/O Operation Voltages: 3.3 V; Instruction set architecture: ARM(R) Cortex(TM)-M4 (32-bit); Max Clock Frequency: 120 MHz; Type of Memory: Flash; Type of Serial I/O Interfaces: UART,SPI,I2C,I2S,LIN,CAN,Ethernet 10/100,USB; DatasheetVersion: Rev. 1.3; PackageReference: PG-LQFP-144-18; PackageDescription: 144-Pin Plastic (Green) Low Profile Quad Flat Package, 20 x 20 mm Body, 0.5 mm Pitch; Supplier 1: Farnell; Supplier Part Number 1: 2418740; Supplier 2: Newark; Supplier Part Number 2: 52X6576; Group: XMC4500; Halogen-free: TRUE; Packing: Tray; Program Memory: 1024 KByte; SRAM (incl. Cache): 160 KByte; Mounting Technology: Surface Mount; ComponentLink1Description: Manufacturer URL; ComponentLink1URL: http://www.infineon.com/; ComponentLink2Description: Datasheet; ComponentLink2URL: http://www.infineon.com/dgdl/xmc4500_ds_v1.3_2014_03.pdf?folderId=db3a30433580b3710135a47f3eb76c98&fileId=db3a304335b504400135bdca7ed86742; ComponentLink3Description: Package Specification; ComponentLink3URL: http://www.infineon.com/cms/packages/SMD_-_Surface_Mounted_Devices/P-PG-LQFP/P-PG-LQFP-144-04x_13x_14x_15x_16x_18x_23.html?__locale=en
footprint INF-PG-LQFP-144-18-6500X6500TP_N (QFP, 144-Leads, Body 20x20mm, Pitch 0.5mm, Thermal Pad 6.5x6.5mm, IPC Medium Density)
footprint INF-PG-LQFP-144-18-6500X6500TP_L (QFP, 144-Leads, Body 20x20mm, Pitch 0.5mm, Thermal Pad 6.5x6.5mm, IPC High Density)
footprint INF-PG-LQFP-144-18-6500X6500TP_M (QFP, 144-Leads, Body 20x20mm, Pitch 0.5mm, Thermal Pad 6.5x6.5mm, IPC Low Density)
part A pins: 1 P0.1 (io), 2 P0.0 (io), 3 P0.10 (io), 4 P0.9 (io), 5 P3.2 (io), 6 P3.1 (io), 7 P3.0 (io), 8 P3.13 (io), 9 P3.12 (io), 10 P3.11 (io), 11 P3.10 (io), 12 P3.9 (io), 13 P3.8 (io), 14 P3.7 (io), 25 P15.7 (in), 26 P15.6 (in), 27 P15.5 (in), 28 P15.4 (in), 29 P15.3 (in), 30 P15.2 (in), 31 P14.15 (in), 32 P14.14 (in), 33 P14.13 (in), 34 P14.12 (in), 35 P14.7 (in), 36 P14.6 (in), 37 P14.5 (in), 38 P14.4 (in), 39 P14.3 (in), 40 P14.2 (in), 41 P14.1 (in), 42 P14.0 (in), 43 P15.15 (in), 44 P15.14 (in), 49 P15.13 (in), 50 P15.12 (in), 51 P14.9 (io), 52 P14.8 (io), 53 P15.9 (in), 54 P15.8 (in), 55 P5.11 (io), 56 P5.10 (io), 57 P5.9 (io), 58 P5.8 (io), 59 P2.15 (io), 60 P2.14 (io), 63 P2.13 (io), 64 P2.12 (io), 65 P2.11 (io), 66 P2.10 (io), 67 P2.9 (io), 68 P2.8 (io), 69 P2.5 (io), 70 P2.4 (io), 71 P2.3 (io), 72 P2.2 (io), 73 P2.1 (io), 74 P2.0 (io), 75 P2.7 (io), 76 P2.6 (io), 77 P5.7 (io), 78 P5.6 (io), 79 P5.5 (io), 80 P5.4 (io), 81 P5.3 (io), 82 P5.2 (io), 83 P5.1 (io), 84 P5.0 (io), 94 P1.15 (io), 95 P6.6 (io), 96 P6.5 (io), 97 P6.4 (io), 98 P6.3 (io), 99 P6.2 (io), 100 P6.1 (io), 101 P6.0 (io), 102 P1.14 (io), 103 P1.13 (io), 104 P1.12 (io), 105 P1.11 (io), 106 P1.10 (io), 107 P1.5 (io), 108 P1.4 (io), 109 P1.3 (io), 110 P1.2 (io), 111 P1.1 (io), 112 P1.0 (io), 113 P1.9 (io), 114 P1.8 (io), 115 P1.7 (io), 116 P1.6 (io), 117 P4.7 (io), 118 P4.6 (io), 119 P4.5 (io), 120 P4.4 (io), 121 P4.3 (io), 122 P4.2 (io), 123 P4.1 (io), 124 P4.0 (io), 127 P0.8 (io), 128 P0.7 (io), 129 P3.6 (io), 130 P3.5 (io), 131 P3.4 (io), 132 P3.3 (io), 133 P3.15 (io), 134 P3.14 (io), 135 P0.15 (io), 136 P0.14 (io), 137 P0.13 (io), 138 P0.12 (io), 139 P0.11 (io), 140 P0.6 (io), 141 P0.5 (io), 142 P0.4 (io), 143 P0.3 (io), 144 P0.2 (io)
part B pins: 15 USB_DM (io), 16 USB_DP (io), 20 HIB_IO_1 (io), 21 HIB_IO_0 (io), 22 RTC_XTAL1, 23 RTC_XTAL2, 87 XTAL1, 88 XTAL2, 91 ~{PORST} (io), 92 TMS (io), 93 TCK (in)
part C pins: 17 VBUS (power), 18 VDDP (power), 19 VDDC (power), 24 VBAT (power), 45 VAGND (power), 46 VAREF (power), 47 VSSA (power), 48 VDDA (power), 61 VDDC (power), 62 VDDP (power), 85 VSS (power), 86 VDDP (power), 89 VSSO (power), 90 VDDC (power), 125 VDDC (power), 126 VDDP (power), 145 EP (power)

## XMC4502-F100F768 AB
designator U?
120 MHz XMC4500 MCU with 768 KByte Program Memory, 160 KByte SRAM, 3.3 V, -40 to 85 degC, PG-LQFP-100, Green; Manufacturer: Infineon; PartNumber: XMC4502-F100F768 AB; A / D input lines (incl. FADC): 18; Digital I/O Lines: 55; Green: TRUE; Type of Memory: Flash; Type of Serial I/O Interfaces: 6xSPI, Dual SPI, Quad SPI, UART, LIN, IIC, IIS; DatasheetVersion: Rev. 1.0; PackageVersion: Rev. 11, 11/2012; PackageReference: PG-LQFP-100-11; PackageDescription: 100-Pin Plastic (Green) Low Profile Quad Flat Package, 14 x 14 mm Body, 0.5 mm Pitch; Group: XMC4500; Halogen-free: TRUE; Program Memory: 768 KByte; RoHS: TRUE; SRAM (incl. Cache): 160 KByte; Mounting Technology: Surface Mount; ComponentLink1Description: Manufacturer URL; ComponentLink1URL: http://www.infineon.com/; ComponentLink2Description: Datasheet; ComponentLink2URL: http://www.infineon.com/dgdl/xmc4500_ds_v1+0_2013_01.pdf?folderId=db3a30433580b3710135a47f3eb76c98&fileId=db3a304335b504400135bdca7ed86742&location=en.Products.Microcontrollers.32-bit_Industrial_Microcontrollers_based_on_ARM__Cortex_-M.32-bit_XMC4000_Industrial_Microcontrollers_ARM__Cortex_-M4.DATASHEET.xmc4500_ds_v1 0_2013_01.pdf; ComponentLink3Description: Package Specification; ComponentLink3URL: http://www.infineon.com/dgdl/xmc4400_ds_v0.6_2012_11_.pdf?folderId=db3a30433580b3710135a47f3eb76c98&fileId=db3a30433afc7e3e013b3cfb455565a3&location=en.Products.Microcontrollers.32-bit_Industrial_Microcontrollers_based_on_ARM__Cortex_-M.32-bit_XMC4000_Industrial_Microcontrollers_ARM__Cortex_-M4.DATASHEET.xmc4400_ds_v0.6_2012_11_.pdf
footprint INF-PG-LQFP-100-11-7000X7000TP_N (QFP, 100-Leads, Body 14x14mm, Pitch 0.5mm, Thermal Pad 7x7mm, IPC Medium Density)
footprint INF-PG-LQFP-100-11-7000X7000TP_L (QFP, 100-Leads, Body 14x14mm, Pitch 0.5mm, Thermal Pad 7x7mm, IPC High Density)
footprint INF-PG-LQFP-100-11-7000X7000TP_M (QFP, 100-Leads, Body 14x14mm, Pitch 0.5mm, Thermal Pad 7x7mm, IPC Low Density)
part A pins: 1 P0.1 (io), 2 P0.0 (io), 3 P0.10 (io), 4 P0.9 (io), 5 P3.2 (io), 6 P3.1 (io), 7 P3.0 (io), 18 P15.3 (in), 19 P15.2 (in), 20 P14.15 (in), 21 P14.14 (in), 22 P14.13 (in), 23 P14.12 (in), 24 P14.7 (in), 25 P14.6 (in), 26 P14.5 (in), 27 P14.4 (in), 28 P14.3 (in), 29 P14.2 (in), 30 P14.1 (in), 31 P14.0 (in), 36 P14.9 (io), 37 P14.8 (io), 38 P15.9 (in), 39 P15.8 (in), 40 P2.15 (io), 41 P2.14 (io), 44 P2.10 (io), 45 P2.9 (io), 46 P2.8 (io), 47 P2.5 (io), 48 P2.4 (io), 49 P2.3 (io), 50 P2.2 (io), 51 P2.1 (io), 52 P2.0 (io), 53 P2.7 (io), 54 P2.6 (io), 55 P5.7 (io), 56 P5.2 (io), 57 P5.1 (io), 58 P5.0 (io), 68 P1.15 (io), 69 P1.14 (io), 70 P1.13 (io), 71 P1.12 (io), 72 P1.11 (io), 73 P1.10 (io), 74 P1.5 (io), 75 P1.4 (io), 76 P1.3 (io), 77 P1.2 (io), 78 P1.1 (io), 79 P1.0 (io), 80 P1.9 (io), 81 P1.8 (io), 82 P1.7 (io), 83 P1.6 (io), 84 P4.1 (io), 85 P4.0 (io), 88 P0.8 (io), 89 P0.7 (io), 90 P3.6 (io), 91 P3.5 (io), 92 P3.4 (io), 93 P3.3 (io), 94 P0.12 (io), 95 P0.11 (io), 96 P0.6 (io), 97 P0.5 (io), 98 P0.4 (io), 99 P0.3 (io), 100 P0.2 (io)
part B pins: 8 USB_DM (io), 9 USB_DP (io), 13 HIB_IO_1 (io), 14 HIB_IO_0 (io), 15 RTC_XTAL1, 16 RTC_XTAL2, 61 XTAL1, 62 XTAL2, 65 ~{PORST} (io) "Weak pull-up permanently active, strong pull-down controlled by EVR.", 66 TMS (io), 67 TCK (in)
part C pins: 10 VBUS (power), 11 VDDP (power), 12 VDDC (power), 17 VBAT (power) "When VDDP is supplied VBAT has to be supplied as well.", 32 VAGND (power), 33 VAREF (power), 34 VSSA (power), 35 VDDA (power), 42 VDDC (power), 43 VDDP (power), 59 VSS (power), 60 VDDP (power), 63 VSSO (power), 64 VDDC (power), 86 VDDC (power), 87 VDDP (power), 101 VSS (power) "Exposed Die Pad The exposed die pad is connected internally to VSS. For proper operation, it is mandatory to connect the exposed pad to the board ground. For thermal aspects, please refer to the Package and Reliability (See Datasheet)"

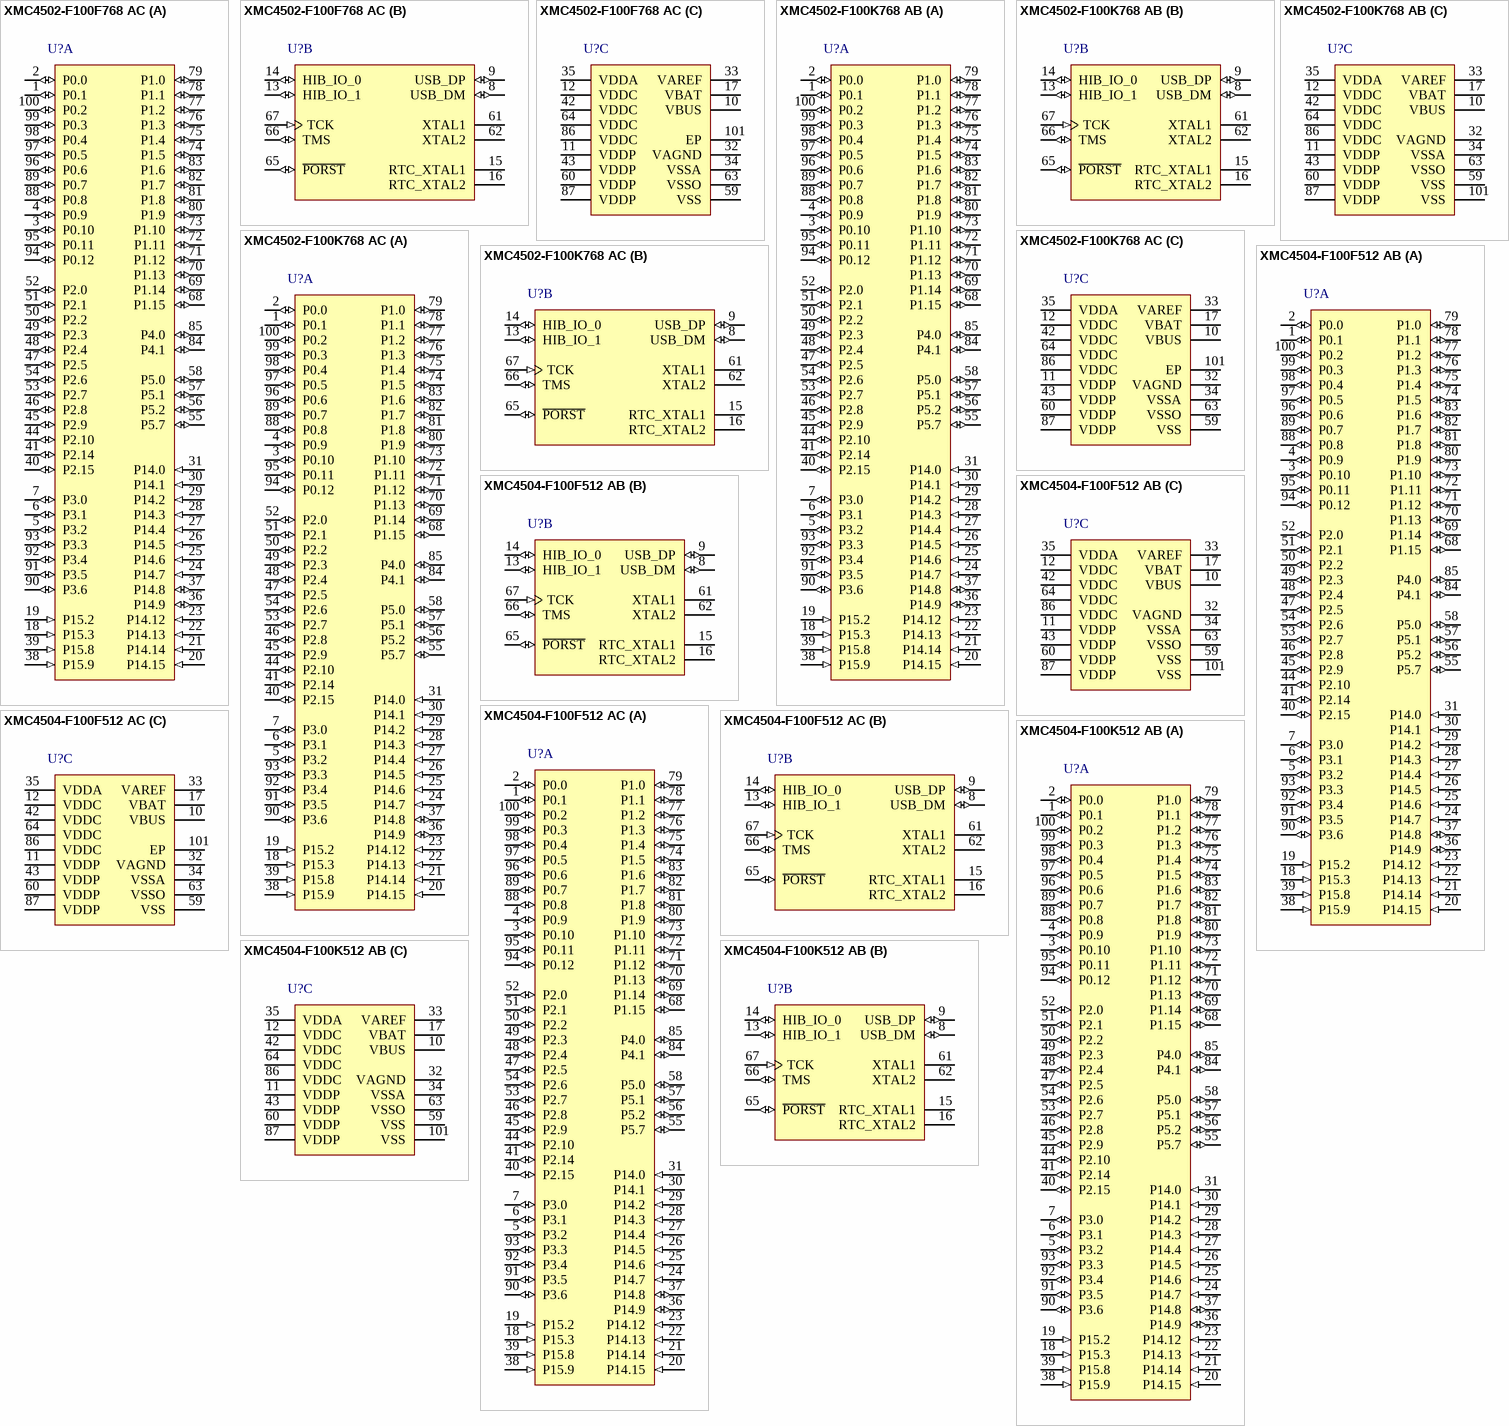
[diagram p117: symbols XMC4502-F100F768 AC to XMC4504-F100K512 AB]

## XMC4502-F100F768 AC
designator U?
120 MHz XMC4500 MCU with 768 KByte Program Memory, 160 KByte SRAM, 3.3 V, -40 to 150 degC, PG-LQFP-100, Tray, Green; Manufacturer: Infineon; PartNumber: XMC4502-F100F768 AC; A / D input lines (incl. FADC): 18; Digital I/O Lines: 55; Green: TRUE; I/O Operation Voltages: 3.3 V; Instruction set architecture: ARM(R) Cortex(TM)-M4 (32-bit); Max Clock Frequency: 120 MHz; Type of Memory: Flash; Type of Serial I/O Interfaces: UART,SPI,I2C,I2S,LIN,CAN,USB; DatasheetVersion: Rev. 1.3; PackageVersion: Mar-13; PackageReference: PG-LQFP-100-11; PackageDescription: 100-Pin Plastic (Green) Low Profile Quad Flat Package, 14 x 14 mm Body, 0.5 mm Pitch; Group: XMC4500; Halogen-free: TRUE; Packing: Tray; Program Memory: 768 KByte; SRAM (incl. Cache): 160 KByte; Mounting Technology: Surface Mount; ComponentLink1Description: Manufacturer URL; ComponentLink1URL: http://www.infineon.com/; ComponentLink2Description: Datasheet; ComponentLink2URL: http://www.infineon.com/dgdl/xmc4500_ds_v1.3_2014_03.pdf?folderId=db3a30433580b3710135a47f3eb76c98&fileId=db3a304335b504400135bdca7ed86742; ComponentLink3Description: Package Specification; ComponentLink3URL: http://www.infineon.com/dgdl/PG-LQFP-100-3%2C-4%2C-8%2C-11-Package_Overview.pdf?folderId=db3a30431a5c32f2011a90c5ac475987&fileId=db3a30431a5c32f2011a9129fcd359d1
footprint INF-PG-LQFP-100-11-7000X7000TP_N (QFP, 100-Leads, Body 14x14mm, Pitch 0.5mm, Thermal Pad 7x7mm, IPC Medium Density)
footprint INF-PG-LQFP-100-11-7000X7000TP_L (QFP, 100-Leads, Body 14x14mm, Pitch 0.5mm, Thermal Pad 7x7mm, IPC High Density)
footprint INF-PG-LQFP-100-11-7000X7000TP_M (QFP, 100-Leads, Body 14x14mm, Pitch 0.5mm, Thermal Pad 7x7mm, IPC Low Density)
part A pins: 1 P0.1 (io), 2 P0.0 (io), 3 P0.10 (io), 4 P0.9 (io), 5 P3.2 (io), 6 P3.1 (io), 7 P3.0 (io), 18 P15.3 (in), 19 P15.2 (in), 20 P14.15 (in), 21 P14.14 (in), 22 P14.13 (in), 23 P14.12 (in), 24 P14.7 (in), 25 P14.6 (in), 26 P14.5 (in), 27 P14.4 (in), 28 P14.3 (in), 29 P14.2 (in), 30 P14.1 (in), 31 P14.0 (in), 36 P14.9 (io), 37 P14.8 (io), 38 P15.9 (in), 39 P15.8 (in), 40 P2.15 (io), 41 P2.14 (io), 44 P2.10 (io), 45 P2.9 (io), 46 P2.8 (io), 47 P2.5 (io), 48 P2.4 (io), 49 P2.3 (io), 50 P2.2 (io), 51 P2.1 (io), 52 P2.0 (io), 53 P2.7 (io), 54 P2.6 (io), 55 P5.7 (io), 56 P5.2 (io), 57 P5.1 (io), 58 P5.0 (io), 68 P1.15 (io), 69 P1.14 (io), 70 P1.13 (io), 71 P1.12 (io), 72 P1.11 (io), 73 P1.10 (io), 74 P1.5 (io), 75 P1.4 (io), 76 P1.3 (io), 77 P1.2 (io), 78 P1.1 (io), 79 P1.0 (io), 80 P1.9 (io), 81 P1.8 (io), 82 P1.7 (io), 83 P1.6 (io), 84 P4.1 (io), 85 P4.0 (io), 88 P0.8 (io), 89 P0.7 (io), 90 P3.6 (io), 91 P3.5 (io), 92 P3.4 (io), 93 P3.3 (io), 94 P0.12 (io), 95 P0.11 (io), 96 P0.6 (io), 97 P0.5 (io), 98 P0.4 (io), 99 P0.3 (io), 100 P0.2 (io)
part B pins: 8 USB_DM (io), 9 USB_DP (io), 13 HIB_IO_1 (io), 14 HIB_IO_0 (io), 15 RTC_XTAL1, 16 RTC_XTAL2, 61 XTAL1, 62 XTAL2, 65 ~{PORST} (io) "Weak pull-up permanently active, strong pull-down controlled by EVR.", 66 TMS (io) "Weak pull-up active.As output the strong-soft driver mode is active", 67 TCK (in) "Weak pull-down active."
part C pins: 10 VBUS (power), 11 VDDP (power), 12 VDDC (power), 17 VBAT (power) "When VDDP is supplied VBAT has to be supplied as well", 32 VAGND (power), 33 VAREF (power), 34 VSSA (power), 35 VDDA (power), 42 VDDC (power), 43 VDDP (power), 59 VSS (power), 60 VDDP (power), 63 VSSO (power), 64 VDDC (power), 86 VDDC (power), 87 VDDP (power), 101 EP (power) "Exposed Die Pad The exposed die pad is connected internally to VSS. For proper operation, it is mandatory to connect the exposed pad directly to the common ground on the board For thermal aspects,please refer to the Data (See Datasheet)"

## XMC4502-F100K768 AB
designator U?
120 MHz XMC4500 MCU with 768 KByte Program Memory, 160 KByte SRAM, 3.3 V, -40 to 125 degC, PG-LQFP-100, Green; Manufacturer: Infineon; PartNumber: XMC4502-F100K768 AB; A / D input lines (incl. FADC): 18; Digital I/O Lines: 55; Green: TRUE; Type of Memory: Flash; Type of Serial I/O Interfaces: 6xSPI, Dual SPI, Quad SPI, UART, LIN, IIC, IIS; DatasheetVersion: Rev. 1.0; PackageVersion: Rev. 11, 11/2012; PackageReference: PG-LQFP-100-11; PackageDescription: 100-Pin Plastic (Green) Low Profile Quad Flat Package, 14 x 14 mm Body, 0.5 mm Pitch; Group: XMC4500; Halogen-free: TRUE; Program Memory: 768 KByte; RoHS: TRUE; SRAM (incl. Cache): 160 KByte; Mounting Technology: Surface Mount; ComponentLink1Description: Manufacturer URL; ComponentLink1URL: http://www.infineon.com/; ComponentLink2Description: Datasheet; ComponentLink2URL: http://www.infineon.com/dgdl/xmc4500_ds_v1+0_2013_01.pdf?folderId=db3a30433580b3710135a47f3eb76c98&fileId=db3a304335b504400135bdca7ed86742&location=en.Products.Microcontrollers.32-bit_Industrial_Microcontrollers_based_on_ARM__Cortex_-M.32-bit_XMC4000_Industrial_Microcontrollers_ARM__Cortex_-M4.DATASHEET.xmc4500_ds_v1 0_2013_01.pdf; ComponentLink3Description: Package Specification; ComponentLink3URL: http://www.infineon.com/dgdl/xmc4400_ds_v0.6_2012_11_.pdf?folderId=db3a30433580b3710135a47f3eb76c98&fileId=db3a30433afc7e3e013b3cfb455565a3&location=en.Products.Microcontrollers.32-bit_Industrial_Microcontrollers_based_on_ARM__Cortex_-M.32-bit_XMC4000_Industrial_Microcontrollers_ARM__Cortex_-M4.DATASHEET.xmc4400_ds_v0.6_2012_11_.pdf
footprint INF-PG-LQFP-100-11-7000X7000TP_N (QFP, 100-Leads, Body 14x14mm, Pitch 0.5mm, Thermal Pad 7x7mm, IPC Medium Density)
footprint INF-PG-LQFP-100-11-7000X7000TP_L (QFP, 100-Leads, Body 14x14mm, Pitch 0.5mm, Thermal Pad 7x7mm, IPC High Density)
footprint INF-PG-LQFP-100-11-7000X7000TP_M (QFP, 100-Leads, Body 14x14mm, Pitch 0.5mm, Thermal Pad 7x7mm, IPC Low Density)
part A pins: 1 P0.1 (io), 2 P0.0 (io), 3 P0.10 (io), 4 P0.9 (io), 5 P3.2 (io), 6 P3.1 (io), 7 P3.0 (io), 18 P15.3 (in), 19 P15.2 (in), 20 P14.15 (in), 21 P14.14 (in), 22 P14.13 (in), 23 P14.12 (in), 24 P14.7 (in), 25 P14.6 (in), 26 P14.5 (in), 27 P14.4 (in), 28 P14.3 (in), 29 P14.2 (in), 30 P14.1 (in), 31 P14.0 (in), 36 P14.9 (io), 37 P14.8 (io), 38 P15.9 (in), 39 P15.8 (in), 40 P2.15 (io), 41 P2.14 (io), 44 P2.10 (io), 45 P2.9 (io), 46 P2.8 (io), 47 P2.5 (io), 48 P2.4 (io), 49 P2.3 (io), 50 P2.2 (io), 51 P2.1 (io), 52 P2.0 (io), 53 P2.7 (io), 54 P2.6 (io), 55 P5.7 (io), 56 P5.2 (io), 57 P5.1 (io), 58 P5.0 (io), 68 P1.15 (io), 69 P1.14 (io), 70 P1.13 (io), 71 P1.12 (io), 72 P1.11 (io), 73 P1.10 (io), 74 P1.5 (io), 75 P1.4 (io), 76 P1.3 (io), 77 P1.2 (io), 78 P1.1 (io), 79 P1.0 (io), 80 P1.9 (io), 81 P1.8 (io), 82 P1.7 (io), 83 P1.6 (io), 84 P4.1 (io), 85 P4.0 (io), 88 P0.8 (io), 89 P0.7 (io), 90 P3.6 (io), 91 P3.5 (io), 92 P3.4 (io), 93 P3.3 (io), 94 P0.12 (io), 95 P0.11 (io), 96 P0.6 (io), 97 P0.5 (io), 98 P0.4 (io), 99 P0.3 (io), 100 P0.2 (io)
part B pins: 8 USB_DM (io), 9 USB_DP (io), 13 HIB_IO_1 (io), 14 HIB_IO_0 (io), 15 RTC_XTAL1, 16 RTC_XTAL2, 61 XTAL1, 62 XTAL2, 65 ~{PORST} (io) "Weak pull-up permanently active, strong pull-down controlled by EVR.", 66 TMS (io), 67 TCK (in)
part C pins: 10 VBUS (power), 11 VDDP (power), 12 VDDC (power), 17 VBAT (power) "When VDDP is supplied VBAT has to be supplied as well.", 32 VAGND (power), 33 VAREF (power), 34 VSSA (power), 35 VDDA (power), 42 VDDC (power), 43 VDDP (power), 59 VSS (power), 60 VDDP (power), 63 VSSO (power), 64 VDDC (power), 86 VDDC (power), 87 VDDP (power), 101 VSS (power) "Exposed Die Pad The exposed die pad is connected internally to VSS. For proper operation, it is mandatory to connect the exposed pad to the board ground. For thermal aspects, please refer to the Package and Reliability (See Datasheet)"

## XMC4502-F100K768 AC
designator U?
120 MHz XMC4500 MCU with 768 KByte Program Memory, 160 KByte SRAM, 3.3 V, -40 to 125 degC, PG-LQFP-100, Tray, Green; Manufacturer: Infineon; PartNumber: XMC4502-F100K768 AC; A / D input lines (incl. FADC): 18; Digital I/O Lines: 55; Green: TRUE; I/O Operation Voltages: 3.3 V; Instruction set architecture: ARM(R) Cortex(TM)-M4 (32-bit); Max Clock Frequency: 120 MHz; Type of Memory: Flash; Type of Serial I/O Interfaces: UART,SPI,I2C,I2S,LIN,CAN,USB; DatasheetVersion: Rev. 1.3; PackageVersion: Mar-13; PackageReference: PG-LQFP-100-11; PackageDescription: 100-Pin Plastic (Green) Low Profile Quad Flat Package, 14 x 14 mm Body, 0.5 mm Pitch; Group: XMC4500; Halogen-free: TRUE; Packing: Tray; Program Memory: 768 KByte; SRAM (incl. Cache): 160 KByte; Mounting Technology: Surface Mount; ComponentLink1Description: Manufacturer URL; ComponentLink1URL: http://www.infineon.com/; ComponentLink2Description: Datasheet; ComponentLink2URL: http://www.infineon.com/dgdl/xmc4500_ds_v1.3_2014_03.pdf?folderId=db3a30433580b3710135a47f3eb76c98&fileId=db3a304335b504400135bdca7ed86742; ComponentLink3Description: Package Specification; ComponentLink3URL: http://www.infineon.com/dgdl/PG-LQFP-100-3%2C-4%2C-8%2C-11-Package_Overview.pdf?folderId=db3a30431a5c32f2011a90c5ac475987&fileId=db3a30431a5c32f2011a9129fcd359d1
footprint INF-PG-LQFP-100-11-7000X7000TP_N (QFP, 100-Leads, Body 14x14mm, Pitch 0.5mm, Thermal Pad 7x7mm, IPC Medium Density)
footprint INF-PG-LQFP-100-11-7000X7000TP_L (QFP, 100-Leads, Body 14x14mm, Pitch 0.5mm, Thermal Pad 7x7mm, IPC High Density)
footprint INF-PG-LQFP-100-11-7000X7000TP_M (QFP, 100-Leads, Body 14x14mm, Pitch 0.5mm, Thermal Pad 7x7mm, IPC Low Density)
part A pins: 1 P0.1 (io), 2 P0.0 (io), 3 P0.10 (io), 4 P0.9 (io), 5 P3.2 (io), 6 P3.1 (io), 7 P3.0 (io), 18 P15.3 (in), 19 P15.2 (in), 20 P14.15 (in), 21 P14.14 (in), 22 P14.13 (in), 23 P14.12 (in), 24 P14.7 (in), 25 P14.6 (in), 26 P14.5 (in), 27 P14.4 (in), 28 P14.3 (in), 29 P14.2 (in), 30 P14.1 (in), 31 P14.0 (in), 36 P14.9 (io), 37 P14.8 (io), 38 P15.9 (in), 39 P15.8 (in), 40 P2.15 (io), 41 P2.14 (io), 44 P2.10 (io), 45 P2.9 (io), 46 P2.8 (io), 47 P2.5 (io), 48 P2.4 (io), 49 P2.3 (io), 50 P2.2 (io), 51 P2.1 (io), 52 P2.0 (io), 53 P2.7 (io), 54 P2.6 (io), 55 P5.7 (io), 56 P5.2 (io), 57 P5.1 (io), 58 P5.0 (io), 68 P1.15 (io), 69 P1.14 (io), 70 P1.13 (io), 71 P1.12 (io), 72 P1.11 (io), 73 P1.10 (io), 74 P1.5 (io), 75 P1.4 (io), 76 P1.3 (io), 77 P1.2 (io), 78 P1.1 (io), 79 P1.0 (io), 80 P1.9 (io), 81 P1.8 (io), 82 P1.7 (io), 83 P1.6 (io), 84 P4.1 (io), 85 P4.0 (io), 88 P0.8 (io), 89 P0.7 (io), 90 P3.6 (io), 91 P3.5 (io), 92 P3.4 (io), 93 P3.3 (io), 94 P0.12 (io), 95 P0.11 (io), 96 P0.6 (io), 97 P0.5 (io), 98 P0.4 (io), 99 P0.3 (io), 100 P0.2 (io)
part B pins: 8 USB_DM (io), 9 USB_DP (io), 13 HIB_IO_1 (io), 14 HIB_IO_0 (io), 15 RTC_XTAL1, 16 RTC_XTAL2, 61 XTAL1, 62 XTAL2, 65 ~{PORST} (io) "Weak pull-up permanently active, strong pull-down controlled by EVR.", 66 TMS (io) "Weak pull-up active.As output the strong-soft driver mode is active", 67 TCK (in) "Weak pull-down active."
part C pins: 10 VBUS (power), 11 VDDP (power), 12 VDDC (power), 17 VBAT (power) "When VDDP is supplied VBAT has to be supplied as well", 32 VAGND (power), 33 VAREF (power), 34 VSSA (power), 35 VDDA (power), 42 VDDC (power), 43 VDDP (power), 59 VSS (power), 60 VDDP (power), 63 VSSO (power), 64 VDDC (power), 86 VDDC (power), 87 VDDP (power), 101 EP (power) "Exposed Die Pad The exposed die pad is connected internally to VSS. For proper operation, it is mandatory to connect the exposed pad directly to the common ground on the board For thermal aspects,please refer to the Data (See Datasheet)"